# Altium schematic symbol library MySchlib.SchLib: 51 symbols
Pins are listed as number, name and electrical type; pins without a type are passive.

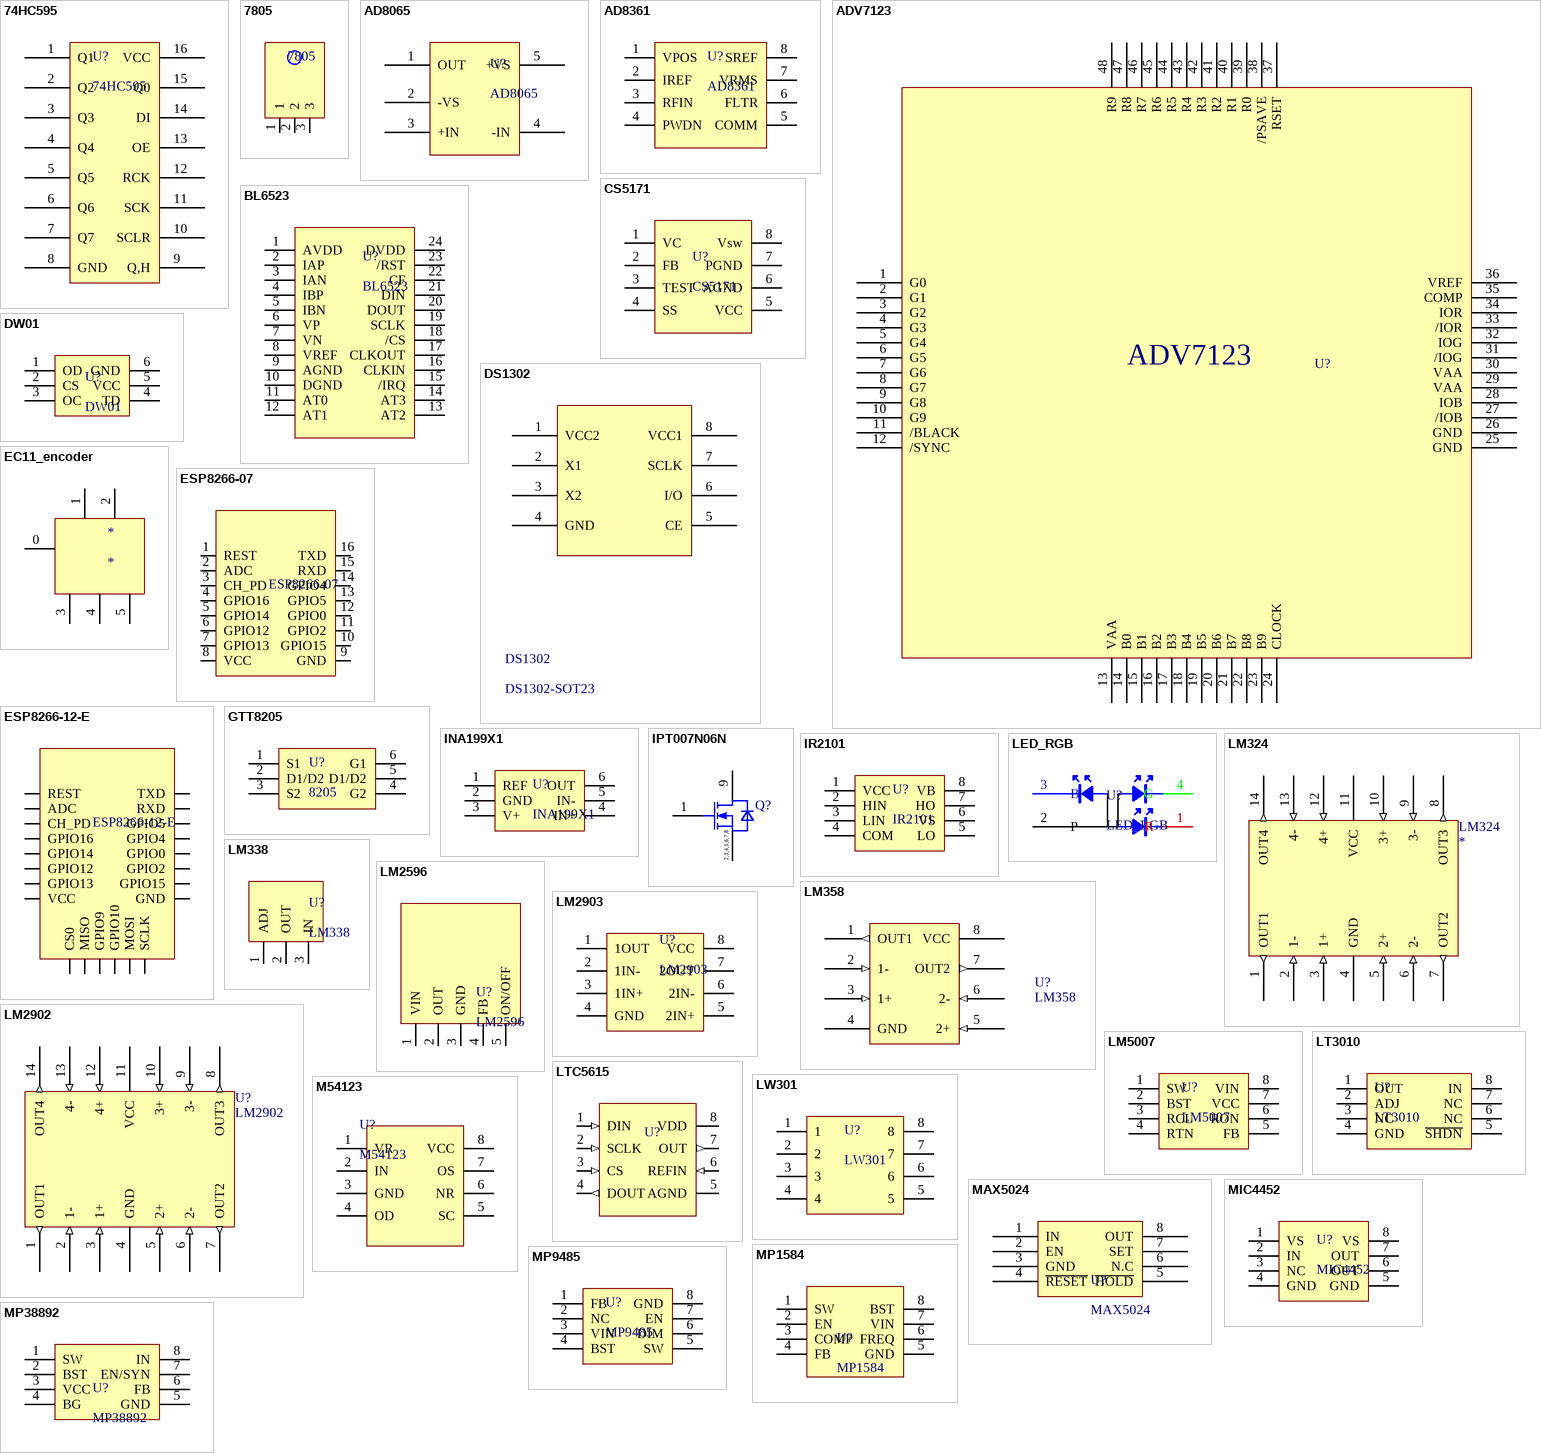
[diagram p0: symbols 74HC595 to MP38892]

## 74HC595
designator U?
footprint EC11encoder (编码电位器)
pins: 1 Q1, 2 Q2, 3 Q3, 4 Q4, 5 Q5, 6 Q6, 7 Q7, 8 GND, 9 Q,H, 10 SCLR, 11 SCK, 12 RCK, 13 OE, 14 DI, 15 Q0, 16 VCC

## 7805
designator 7805  (value not drawn)
footprint 7805
pins: 1, 2, 3

## AD8065
designator U?
footprint SOT25-5
pins: 1 OUT, 2 -VS, 3 +IN, 4 -IN, 5 +VS

## AD8361
designator U?
footprint TSOP65P490X110-8N (TSOP, 8-Leads, Body 3.0x3.0mm (max), Pitch 0.65mm, IPC Medium Density)
pins: 1 VPOS, 2 IREF, 3 RFIN, 4 PWDN, 5 COMM, 6 FLTR, 7 VRMS, 8 SREF

## ADV7123
designator U?  (value not drawn)
footprint LQFP48
pins: 1 G0, 2 G1, 3 G2, 4 G3, 5 G4, 6 G5, 7 G6, 8 G7, 9 G8, 10 G9, 11 /BLACK, 12 /SYNC, 13 VAA, 14 B0, 15 B1, 16 B2, 17 B3, 18 B4, 19 B5, 20 B6, 21 B7, 22 B8, 23 B9, 24 CLOCK, 25 GND, 26 GND, 27 /IOB, 28 IOB, 29 VAA, 30 VAA, 31 /IOG, 32 IOG, 33 /IOR, 34 IOR, 35 COMP, 36 VREF, 37 RSET, 38 /PSAVE, 39 R0, 40 R1, 41 R2, 42 R3, 43 R4, 44 R5, 45 R6, 46 R7, 47 R8, 48 R9

## BL6523
designator U?
电量计量芯片
footprint SSOP-24_208mil
pins: 1 AVDD, 2 IAP, 3 IAN, 4 IBP, 5 IBN, 6 VP, 7 VN, 8 VREF, 9 AGND, 10 DGND, 11 AT0, 12 AT1, 13 AT2, 14 AT3, 15 /IRQ, 16 CLKIN, 17 CLKOUT, 18 /CS, 19 SCLK, 20 DOUT, 21 DIN, 22 CF, 23 /RST, 24 DVDD

## CS5171
designator U?
footprint SOIC-8
pins: 1 VC, 2 FB, 3 TEST, 4 SS, 5 VCC, 6 AGND, 7 PGND, 8 Vsw

## DS1302
designator DS1302, comment DS1302-SOT23
footprint SOIC-8M
pins: 1 VCC2, 2 X1, 3 X2, 4 GND, 5 CE, 6 I/O, 7 SCLK, 8 VCC1

## DW01
designator U?
锂电池保护芯片
footprint SOT23-5
pins: 1 OD, 2 CS, 3 OC, 4 TD, 5 VCC, 6 GND

## EC11_encoder
designator *
footprint EC11encoder (编码电位器)
pins: 0, 1, 2, 3, 4, 5

## ESP8266-07
designator ESP8266-07  (value not drawn)
footprint ESP8266-07 (WiFi module)
pins: 1 REST, 2 ADC, 3 CH_PD, 4 GPIO16, 5 GPIO14, 6 GPIO12, 7 GPIO13, 8 VCC, 9 GND, 10 GPIO15, 11 GPIO2, 12 GPIO0, 13 GPIO5, 14 GPIO4, 15 RXD, 16 TXD

## ESP8266-12-E
designator ESP8266-12-E  (value not drawn)
footprint ESP8266-12-E (WiFi module)
pins: 1 REST, 2 ADC, 3 CH_PD, 4 GPIO16, 5 GPIO14, 6 GPIO12, 7 GPIO13, 8 VCC, 9 CS0, 10 MISO, 11 GPIO9, 12 GPIO10, 13 MOSI, 14 SCLK, 15 GND, 16 GPIO15, 17 GPIO2, 18 GPIO0, 19 GPIO4, 20 GPIO5, 21 RXD, 22 TXD

## GTT8205
designator U?, comment 8205
8205双N沟导MOS管,20V/6A
footprint SOT23-5
pins: 1 S1, 2 D1/D2, 3 S2, 4 G2, 5 D1/D2, 6 G1

## INA199X1
designator U?
footprint DCK0006A_N
pins: 1 REF, 2 GND, 3 V+, 4 IN+, 5 IN-, 6 OUT

## IPT007N06N
designator Q?  (value not drawn)
OptiMOS N-Channel Power-Transistor; Manufacturer: Infineon Technologies; ManufacturerPartNumber: IPT007N06N; PackageReference: PG-HSOF-8-1
footprint INF-PG-HSOF-8-1-0
pins: 1 GATE, 2 SOURCE, 3 SOURCE, 4 SOURCE, 5 SOURCE, 6 SOURCE, 7 SOURCE, 8 SOURCE, 9 DRAIN
text: 2,3,4,5,6,7,8

## IR2101
designator U?
高低端mos驱动
footprint SOP-8_150mil
pins: 1 VCC, 2 HIN, 3 LIN, 4 COM, 5 LO, 6 VS, 7 HO, 8 VB

## LED_RGB
designator U?
全彩LED
footprint LED_RGB
pins: 1 R, 2 P, 3 B, 4 G

## LM324
designator LM324
pins: 1 OUT1 (out), 2 1- (in), 3 1+ (in), 4 GND (power), 5 2+ (in), 6 2- (in), 7 OUT2 (out), 8 OUT3 (out), 9 3- (in), 10 3+ (in), 11 VCC (power), 12 4+ (in), 13 4- (in), 14 OUT4 (out)

## LM338
designator U?
footprint TO-220 - duplicate1
pins: 1 ADJ, 2 OUT, 3 IN

## LM358
designator U?
footprint DIP08
pins: 1 OUT1 (out), 2 1- (in), 3 1+ (in), 4 GND (power), 5 2+ (in), 6 2- (in), 7 OUT2 (out), 8 VCC (power)

## LM2596
designator U?
footprint TO-263 - duplicate
pins: 1 VIN, 2 OUT, 3 GND, 4 FB, 5 ON/OFF

## LM2902
designator U?
运算放大器
pins: 1 OUT1 (out), 2 1- (in), 3 1+ (in), 4 GND (power), 5 2+ (in), 6 2- (in), 7 OUT2 (out), 8 OUT3 (out), 9 3- (in), 10 3+ (in), 11 VCC (power), 12 4+ (in), 13 4- (in), 14 OUT4 (out)

## LM2903
designator U?
电压比较器
footprint SOIC-8_150mil
pins: 1 1OUT, 2 1IN-, 3 1IN+, 4 GND, 5 2IN+, 6 2IN-, 7 2OUT, 8 VCC

## LM5007
designator U?
75-V, 0.5-A DC/DC Buck Converter
footprint MSOP-8
pins: 1 SW, 2 BST, 3 RCL, 4 RTN, 5 FB, 6 RON, 7 VCC, 8 VIN

## LT3010
designator U?
50mA、3V 至 80V 低压差微功率稳压器
footprint MSOP-8_EP (MSOP-8, with EP)
pins: 1 OUT, 2 ADJ, 3 NC, 4 GND, 5 ~{SHDN}, 6 NC, 7 NC, 8 IN

## LTC5615
designator U?  (value not drawn)
footprint DIP08
pins: 1 DIN (in), 2 SCLK (in), 3 CS (in), 4 DOUT (out), 5 AGND, 6 REFIN (in), 7 OUT (out), 8 VDD (power)

## LW301
designator U?
footprint SOP-8
pins: 1, 2, 3, 4, 5, 6, 7, 8

## M54123
designator U?
footprint SOP-8
pins: 1 VR, 2 IN, 3 GND, 4 OD, 5 SC, 6 NR, 7 OS, 8 VCC

## MAX5024
designator U?
LDO 65Vmax
footprint SOIC-8_EP_150mil
pins: 1 IN, 2 EN, 3 GND, 4 ~{RESET}, 5 ~{HOLD}, 6 N.C, 7 SET, 8 OUT

## MIC4452
designator U?
mos驱动芯片
footprint SOIC-8_150mil
pins: 1 VS, 2 IN, 3 NC, 4 GND, 5 GND, 6 OUT, 7 OUT, 8 VS

## MP1584
designator U?
DC-DC芯片
footprint SOP-8_EP_150mil
pins: 1 SW, 2 EN, 3 COMP, 4 FB, 5 GND, 6 FREQ, 7 VIN, 8 BST

## MP9485
designator U?
100V Input, 500mA, Step-Down Converter
footprint SOIC-8_EP_150mil
pins: 1 FB, 2 NC, 3 VIN, 4 BST, 5 SW, 6 DIM, 7 EN, 8 GND

## MP38892
designator U?
footprint SOIC-8_EP_150mil
pins: 1 SW, 2 BST, 3 VCC, 4 BG, 5 GND, 6 FB, 7 EN/SYN, 8 IN

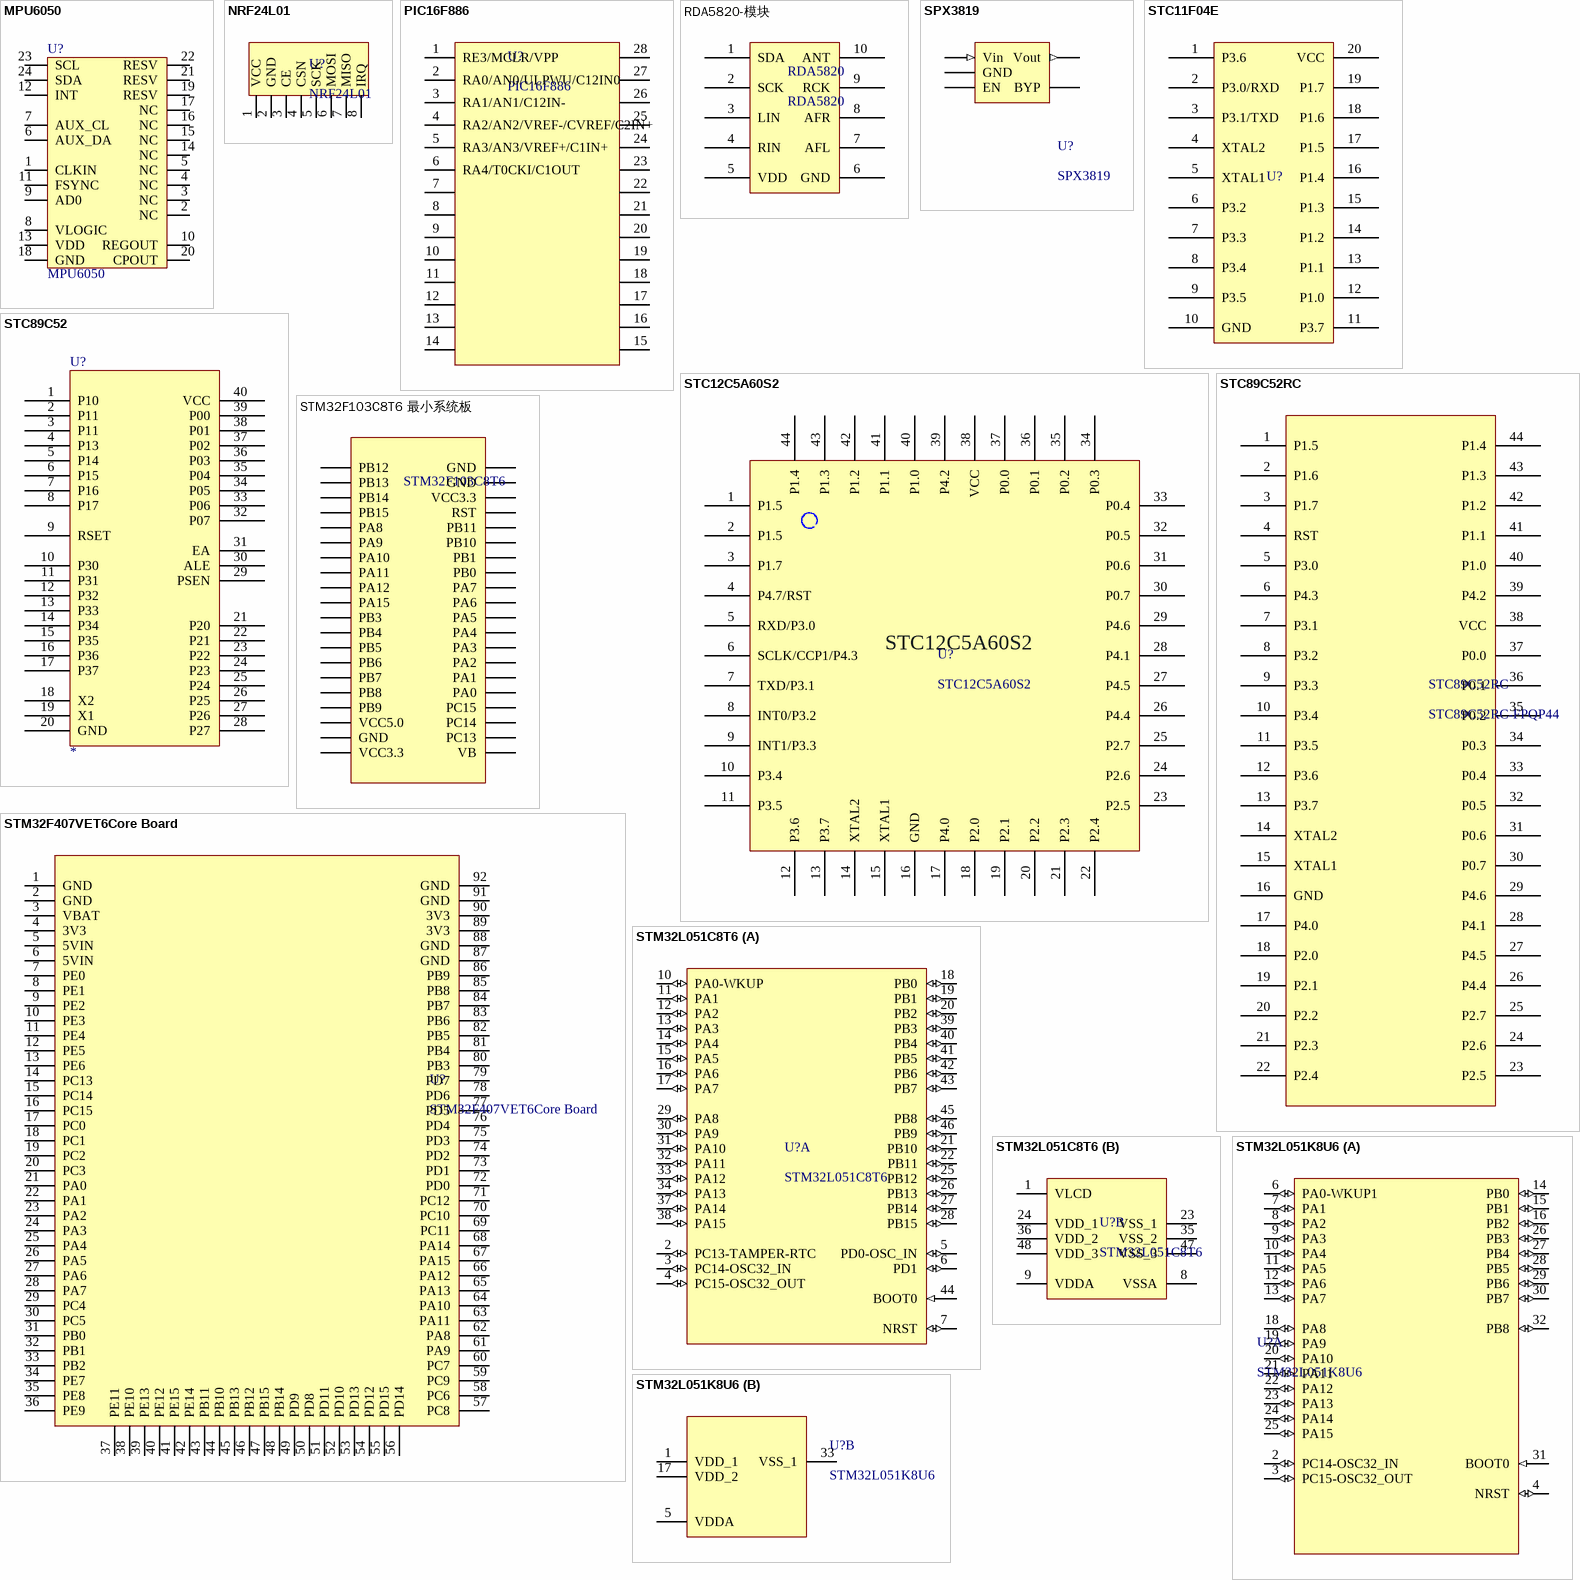
[diagram p1: symbols MPU6050 to STM32L051K8U6]

## MPU6050
designator U?
9轴运动处理传感器
footprint QFN24 (QFN, 24-Leads, Body 4.0x4.0mm (max), Pitch 0.50mm, IPC Medium Density)
pins: 1 CLKIN, 2 NC, 3 NC, 4 NC, 5 NC, 6 AUX_DA, 7 AUX_CL, 8 VLOGIC, 9 AD0, 10 REGOUT, 11 FSYNC, 12 INT, 13 VDD, 14 NC, 15 NC, 16 NC, 17 NC, 18 GND, 19 RESV, 20 CPOUT, 21 RESV, 22 RESV, 23 SCL, 24 SDA

## NRF24L01
designator U?
footprint miniNRF24L01
pins: 1 VCC, 2 GND, 3 CE, 4 CSN, 5 SCK, 6 MOSI, 7 MISO, 8 IRQ

## PIC16F886
designator U?
单片机
footprint SSOP-28
footprint SSOP-28_208mil
pins: 1 RE3/MCLR/VPP, 2 RA0/AN0/ULPWU/C12IN0, 3 RA1/AN1/C12IN-, 4 RA2/AN2/VREF-/CVREF/C2IN+, 5 RA3/AN3/VREF+/C1IN+, 6 RA4/T0CKI/C1OUT, 7, 8, 9, 10, 11, 12, 13, 14, 15, 16, 17, 18, 19, 20, 21, 22, 23, 24, 25, 26, 27, 28

## RDA5820-模块
designator RDA5820, comment RDA5820
footprint RDA5820模块
pins: 1 SDA, 2 SCK, 3 LIN, 4 RIN, 5 VDD, 6 GND, 7 AFL, 8 AFR, 9 RCK, 10 ANT

## SPX3819
designator U?
footprint SOT25-5
pins: 1 Vin (in), 2 GND, 3 EN, 4 BYP, 5 Vout (out)

## STC11F04E
designator U?  (value not drawn)
footprint SOP20
pins: 1 P3.6, 2 P3.0/RXD, 3 P3.1/TXD, 4 XTAL2, 5 XTAL1, 6 P3.2, 7 P3.3, 8 P3.4, 9 P3.5, 10 GND, 11 P3.7, 12 P1.0, 13 P1.1, 14 P1.2, 15 P1.3, 16 P1.4, 17 P1.5, 18 P1.6, 19 P1.7, 20 VCC

## STC12C5A60S2
designator U?
footprint LQFP-44
pins: 1 P1.5, 2 P1.5, 3 P1.7, 4 P4.7/RST, 5 RXD/P3.0, 6 SCLK/CCP1/P4.3, 7 TXD/P3.1, 8 INT0/P3.2, 9 INT1/P3.3, 10 P3.4, 11 P3.5, 12 P3.6, 13 P3.7, 14 XTAL2, 15 XTAL1, 16 GND, 17 P4.0, 18 P2.0, 19 P2.1, 20 P2.2, 21 P2.3, 22 P2.4, 23 P2.5, 24 P2.6, 25 P2.7, 26 P4.4, 27 P4.5, 28 P4.1, 29 P4.6, 30 P0.7, 31 P0.6, 32 P0.5, 33 P0.4, 34 P0.3, 35 P0.2, 36 P0.1, 37 P0.0, 38 VCC, 39 P4.2, 40 P1.0, 41 P1.1, 42 P1.2, 43 P1.3, 44 P1.4

## STC89C52
designator U?
footprint DIP-40
pins: 1 P10, 2 P11, 3 P11, 4 P13, 5 P14, 6 P15, 7 P16, 8 P17, 9 RSET, 10 P30, 11 P31, 12 P32, 13 P33, 14 P34, 15 P35, 16 P36, 17 P37, 18 X2, 19 X1, 20 GND, 21 P20, 22 P21, 23 P22, 24 P23, 25 P24, 26 P25, 27 P26, 28 P27, 29 PSEN, 30 ALE, 31 EA, 32 P07, 33 P06, 34 P05, 35 P04, 36 P03, 37 P02, 38 P01, 39 P00, 40 VCC

## STC89C52RC
designator STC89C52RC, comment STC89C52RC-FPQP44
footprint LQFP-44
pins: 1 P1.5, 2 P1.6, 3 P1.7, 4 RST, 5 P3.0, 6 P4.3, 7 P3.1, 8 P3.2, 9 P3.3, 10 P3.4, 11 P3.5, 12 P3.6, 13 P3.7, 14 XTAL2, 15 XTAL1, 16 GND, 17 P4.0, 18 P2.0, 19 P2.1, 20 P2.2, 21 P2.3, 22 P2.4, 23 P2.5, 24 P2.6, 25 P2.7, 26 P4.4, 27 P4.5, 28 P4.1, 29 P4.6, 30 P0.7, 31 P0.6, 32 P0.5, 33 P0.4, 34 P0.3, 35 P0.2, 36 P0.1, 37 P0.0, 38 VCC, 39 P4.2, 40 P1.0, 41 P1.1, 42 P1.2, 43 P1.3, 44 P1.4

## STM32F103C8T6 最小系统板
designator STM32F103C8T6  (value not drawn)
footprint DIP-40
pins: 1 PB12, 2 PB13, 3 PB14, 4 PB15, 5 PA8, 6 PA9, 7 PA10, 8 PA11, 9 PA12, 10 PA15, 11 PB3, 12 PB4, 13 PB5, 14 PB6, 15 PB7, 16 PB8, 17 PB9, 18 VCC5.0, 19 GND, 20 VCC3.3, 21 VB, 22 PC13, 23 PC14, 24 PC15, 25 PA0, 26 PA1, 27 PA2, 28 PA3, 29 PA4, 30 PA5, 31 PA6, 32 PA7, 33 PB0, 34 PB1, 35 PB10, 36 PB11, 37 RST, 38 VCC3.3, 39 GND, 40 GND

## STM32F407VET6Core Board
designator U?
最小系统板
footprint STM32F407 coreboard
pins: 1 GND, 2 GND, 3 VBAT, 4 3V3, 5 5VIN, 6 5VIN, 7 PE0, 8 PE1, 9 PE2, 10 PE3, 11 PE4, 12 PE5, 13 PE6, 14 PC13, 15 PC14, 16 PC15, 17 PC0, 18 PC1, 19 PC2, 20 PC3, 21 PA0, 22 PA1, 23 PA2, 24 PA3, 25 PA4, 26 PA5, 27 PA6, 28 PA7, 29 PC4, 30 PC5, 31 PB0, 32 PB1, 33 PB2, 34 PE7, 35 PE8, 36 PE9, 37 PE11, 38 PE10, 39 PE13, 40 PE12, 41 PE15, 42 PE14, 43 PB11, 44 PB10, 45 PB13, 46 PB12, 47 PB15, 48 PB14, 49 PD9, 50 PD8, 51 PD11, 52 PD10, 53 PD13, 54 PD12, 55 PD15, 56 PD14, 57 PC8, 58 PC6, 59 PC9, 60 PC7, 61 PA9, 62 PA8, 63 PA11, 64 PA10, 65 PA13, 66 PA12, 67 PA15, 68 PA14, 69 PC11, 70 PC10, 71 PC12, 72 PD0, 73 PD1, 74 PD2, 75 PD3, 76 PD4, 77 PD5, 78 PD6, 79 PD7, 80 PB3, 81 PB4, 82 PB5, 83 PB6, 84 PB7, 85 PB8, 86 PB9, 87 GND, 88 GND, 89 3V3, 90 3V3, 91 GND, 92 GND

## STM32L051C8T6
designator U?
ARM; ComponentLink1Description: 供应商链接; ComponentLink1URL: http://www.szlcsc.com/product/details_9243.html; Package: LQFP-48_7x7x05P; Supplier: LC; SuppliersPartNumber: C8734
footprint LQFP-48_7x7x05P
part A pins: 2 PC13-TAMPER-RTC (io), 3 PC14-OSC32_IN (io), 4 PC15-OSC32_OUT (io), 5 PD0-OSC_IN (io), 6 PD1 (io), 7 NRST (io), 10 PA0-WKUP (io), 11 PA1 (io), 12 PA2 (io), 13 PA3 (io), 14 PA4 (io), 15 PA5 (io), 16 PA6 (io), 17 PA7 (io), 18 PB0 (io), 19 PB1 (io), 20 PB2 (io), 21 PB10 (io), 22 PB11 (io), 25 PB12 (io), 26 PB13 (io), 27 PB14 (io), 28 PB15 (io), 29 PA8 (io), 30 PA9 (io), 31 PA10 (io), 32 PA11 (io), 33 PA12 (io), 34 PA13 (io), 37 PA14 (io), 38 PA15 (io), 39 PB3 (io), 40 PB4 (io), 41 PB5 (io), 42 PB6 (io), 43 PB7 (io), 44 BOOT0 (in), 45 PB8 (io), 46 PB9 (io)
part B pins: 1 VLCD (power), 8 VSSA (power), 9 VDDA (power), 23 VSS_1 (power), 24 VDD_1 (power), 35 VSS_2 (power), 36 VDD_2 (power), 47 VSS_3 (power), 48 VDD_3 (power)

## STM32L051K8U6
designator U?
ARM; ComponentLink1Description: 供应商链接; ComponentLink1URL: http://www.szlcsc.com/product/details_10393.html; Package: LQFP-48_7x7x05P; Supplier: LC; SuppliersPartNumber: C9861
footprint UFQFPN32-5x5mm
part A pins: 2 PC14-OSC32_IN (io), 3 PC15-OSC32_OUT (io), 4 NRST (io), 6 PA0-WKUP1 (io), 7 PA1 (io), 8 PA2 (io), 9 PA3 (io), 10 PA4 (io), 11 PA5 (io), 12 PA6 (io), 13 PA7 (io), 14 PB0 (io), 15 PB1 (io), 16 PB2 (io), 18 PA8 (io), 19 PA9 (io), 20 PA10 (io), 21 PA11 (io), 22 PA12 (io), 23 PA13 (io), 24 PA14 (io), 25 PA15 (io), 26 PB3 (io), 27 PB4 (io), 28 PB5 (io), 29 PB6 (io), 30 PB7 (io), 31 BOOT0 (in), 32 PB8 (io)
part B pins: 1 VDD_1 (power), 5 VDDA (power), 17 VDD_2 (power), 33 VSS_1 (power)

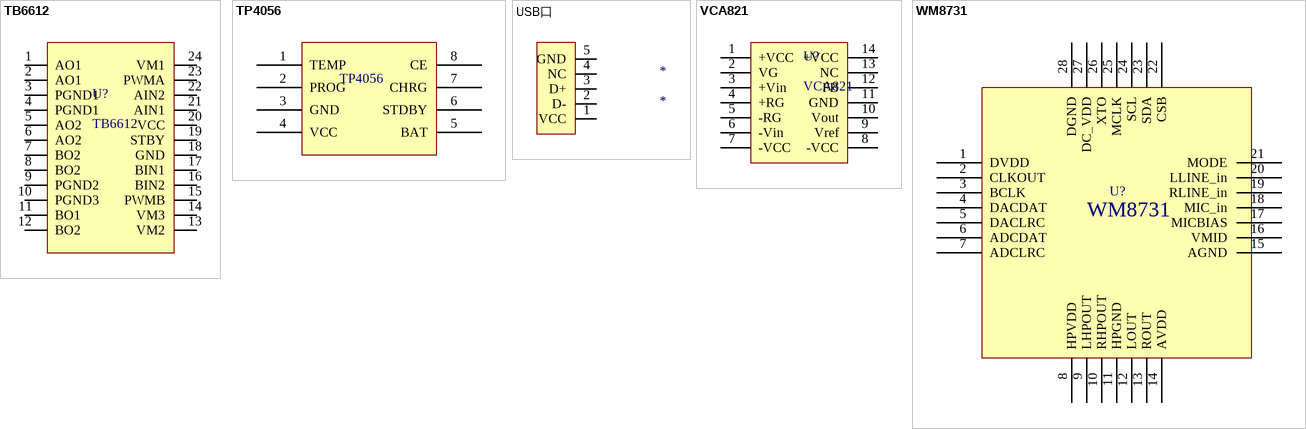
[diagram p2: symbols TB6612 to WM8731]

## TB6612
designator U?
footprint SSOP-24
pins: 1 AO1, 2 AO1, 3 PGND1, 4 PGND1, 5 AO2, 6 AO2, 7 BO2, 8 BO2, 9 PGND2, 10 PGND3, 11 BO1, 12 BO2, 13 VM2, 14 VM3, 15 PWMB, 16 BIN2, 17 BIN1, 18 GND, 19 STBY, 20 VCC, 21 AIN1, 22 AIN2, 23 PWMA, 24 VM1

## TP4056
designator TP4056, comment TP4056-SOT8  (value not drawn)
footprint SOIC-8M
pins: 1 TEMP, 2 PROG, 3 GND, 4 VCC, 5 BAT, 6 STDBY, 7 CHRG, 8 CE

## USB口
designator *
footprint MICRO USB
pins: 1 VCC, 2 D-, 3 D+, 4 NC, 5 GND

## VCA821
designator U?
footprint SOP-14
pins: 1 +VCC, 2 VG, 3 +Vin, 4 +RG, 5 -RG, 6 -Vin, 7 -VCC, 8 -VCC, 9 Vref, 10 Vout, 11 GND, 12 FB, 13 NC, 14 +VCC

## WM8731
designator U?  (value not drawn)
footprint SSOP28
pins: 1 DVDD, 2 CLKOUT, 3 BCLK, 4 DACDAT, 5 DACLRC, 6 ADCDAT, 7 ADCLRC, 8 HPVDD, 9 LHPOUT, 10 RHPOUT, 11 HPGND, 12 LOUT, 13 ROUT, 14 AVDD, 15 AGND, 16 VMID, 17 MICBIAS, 18 MIC_in, 19 RLINE_in, 20 LLINE_in, 21 MODE, 22 CSB, 23 SDA, 24 SCL, 25 MCLK, 26 XTO, 27 DC_VDD, 28 DGND